# Altium schematic symbol library SPST Switch1.Schlib: 1 symbol
Pins are listed as number, name and electrical type; pins without a type are passive.

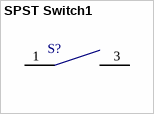
[diagram p0: symbol SPST Switch1]

## SPST Switch1
designator S?
SPST
pins: 1, 3